# Altium footprint library QFN-8(5.0X3.0).PcbLib: 1 footprints
Each footprint in its own frame and in the unit in brackets; x right, y up, seen from the top. Pads: shape width x height; smd on the part's side, far side on the other; paste and mask are expansions set on the pad; w line width, h text height; cw(c..) or ccw(c..) is an arc to the next point about the centre after c.
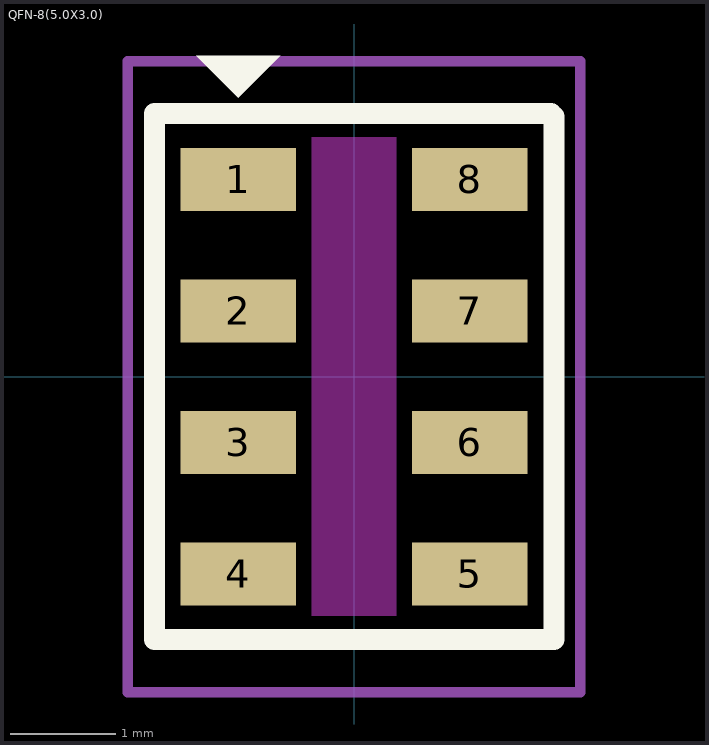
[diagram p0: the footprint, top view; thin cyan lines are the x and y axes]

## QFN-8(5.0X3.0) [mm]
height 1.1
pads (8):
  rect 1.1x0.6 smd: 1(-1.1,1.875) 2(-1.1,0.625) 3(-1.1,-0.625) 4(-1.1,-1.875) 5(1.1,-1.875) 6(1.1,-0.625) 7(1.1,0.625) 8(1.1,1.875)
Top Layer keep-out:
  region: 0.4,-2.275 -0.4,-2.275 -0.4,2.275 0.4,2.275
Top Overlay:
  region: -1.5,3.05 -0.7,3.05 -1.1,2.65
  lines w0.2: 1.875,2.5 -1.897,2.5 -1.897,-2.5 1.9,-2.5 1.9,2.475
Top Courtyard:
  lines w0.1: -2.15,-3 -2.15,3 2.15,3 2.15,-3 -2.15,-3
3D body "step_temp.STEP": height 1, standoff 0, extent -1.5,-2.5 1.5,2.5